# EAGLE library part HT1632C (library jason_eagle6)
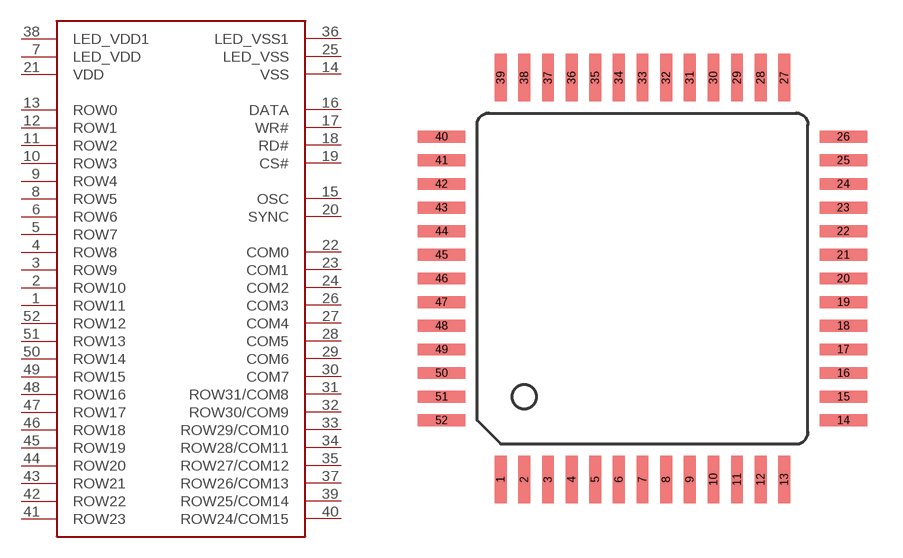
[diagram p4: symbol with the pads of QFP52; footprint QFP52]

Designator prefix IC

## HT1632C  [QFP52]
1  ROW11
2  ROW10
3  ROW9
4  ROW8
5  ROW7
6  ROW6
7  LED_VDD
8  ROW5
9  ROW4
10  ROW3
11  ROW2
12  ROW1
13  ROW0
14  VSS
15  OSC
16  DATA
17  WR#
18  RD#
19  CS#
20  SYNC
21  VDD
22  COM0
23  COM1
24  COM2
25  LED_VSS
26  COM3
27  COM4
28  COM5
29  COM6
30  COM7
31  ROW31/COM8
32  ROW30/COM9
33  ROW29/COM10
34  ROW28/COM11
35  ROW27/COM12
36  LED_VSS1
37  ROW26/COM13
38  LED_VDD1
39  ROW25/COM14
40  ROW24/COM15
41  ROW23
42  ROW22
43  ROW21
44  ROW20
45  ROW19
46  ROW18
47  ROW17
48  ROW16
49  ROW15
50  ROW14
51  ROW13
52  ROW12

## Footprint QFP52 (pad centres in mm)
smd 0.5 x 2: 1 -6,-8; 2 -5,-8; 3 -4,-8; 4 -3,-8; 5 -2,-8; 6 -1,-8; 7 0,-8; 8 1,-8; 9 2,-8; 10 3,-8; 11 4,-8; 12 5,-8; 13 6,-8; 27 6,9; 28 5,9; 29 4,9; 30 3,9; 31 2,9; 32 1,9; 33 0,9; 34 -1,9; 35 -2,9; 36 -3,9; 37 -4,9; 38 -5,9; 39 -6,9
smd 2 x 0.5: 14 8.5,-5.5; 15 8.5,-4.5; 16 8.5,-3.5; 17 8.5,-2.5; 18 8.5,-1.5; 19 8.5,-0.5; 20 8.5,0.5; 21 8.5,1.5; 22 8.5,2.5; 23 8.5,3.5; 24 8.5,4.5; 25 8.5,5.5; 26 8.5,6.5; 40 -8.5,6.5; 41 -8.5,5.5; 42 -8.5,4.5; 43 -8.5,3.5; 44 -8.5,2.5; 45 -8.5,1.5; 46 -8.5,0.5; 47 -8.5,-0.5; 48 -8.5,-1.5; 49 -8.5,-2.5; 50 -8.5,-3.5; 51 -8.5,-4.5; 52 -8.5,-5.5